# EAGLE library part SWITCH-3P-SMD (library Discreter)
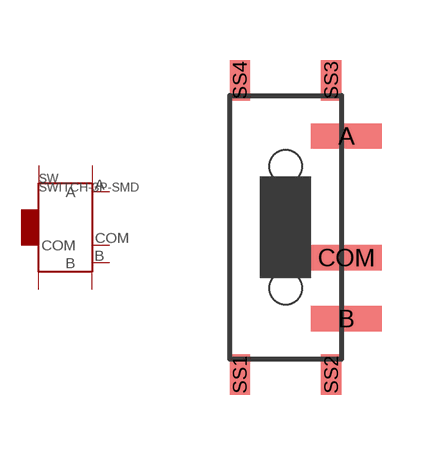
[diagram p9: symbol with the pads of 3P-SMD-REINFORCE-2.8X6.6; footprint 3P-SMD-REINFORCE-2.8X6.6]

Designator prefix SW

## SWITCH-3P-SMD-2.8X6.6  [3P-SMD-REINFORCE-2.8X6.6]
A  A
B  B
COM  COM
SS1  SS1
SS2  SS2
SS3  SS3
SS4  SS4

## Footprint 3P-SMD-REINFORCE-2.8X6.6 (pad centres in mm)
smd 1.778 x 0.635: A 1.524,2.286; B 1.524,-2.286; COM 1.524,-0.762
smd 0.508 x 1.016: SS1 -1.143,-3.683; SS2 1.143,-3.683; SS3 1.143,3.683; SS4 -1.143,3.683
hole 0.813 at 0,-1.524
hole 0.813 at 0,1.524